# Altium schematic symbol library MICRO2440_LIB.SchLib: 5 symbols
Pins are listed as number, name and electrical type; pins without a type are passive.

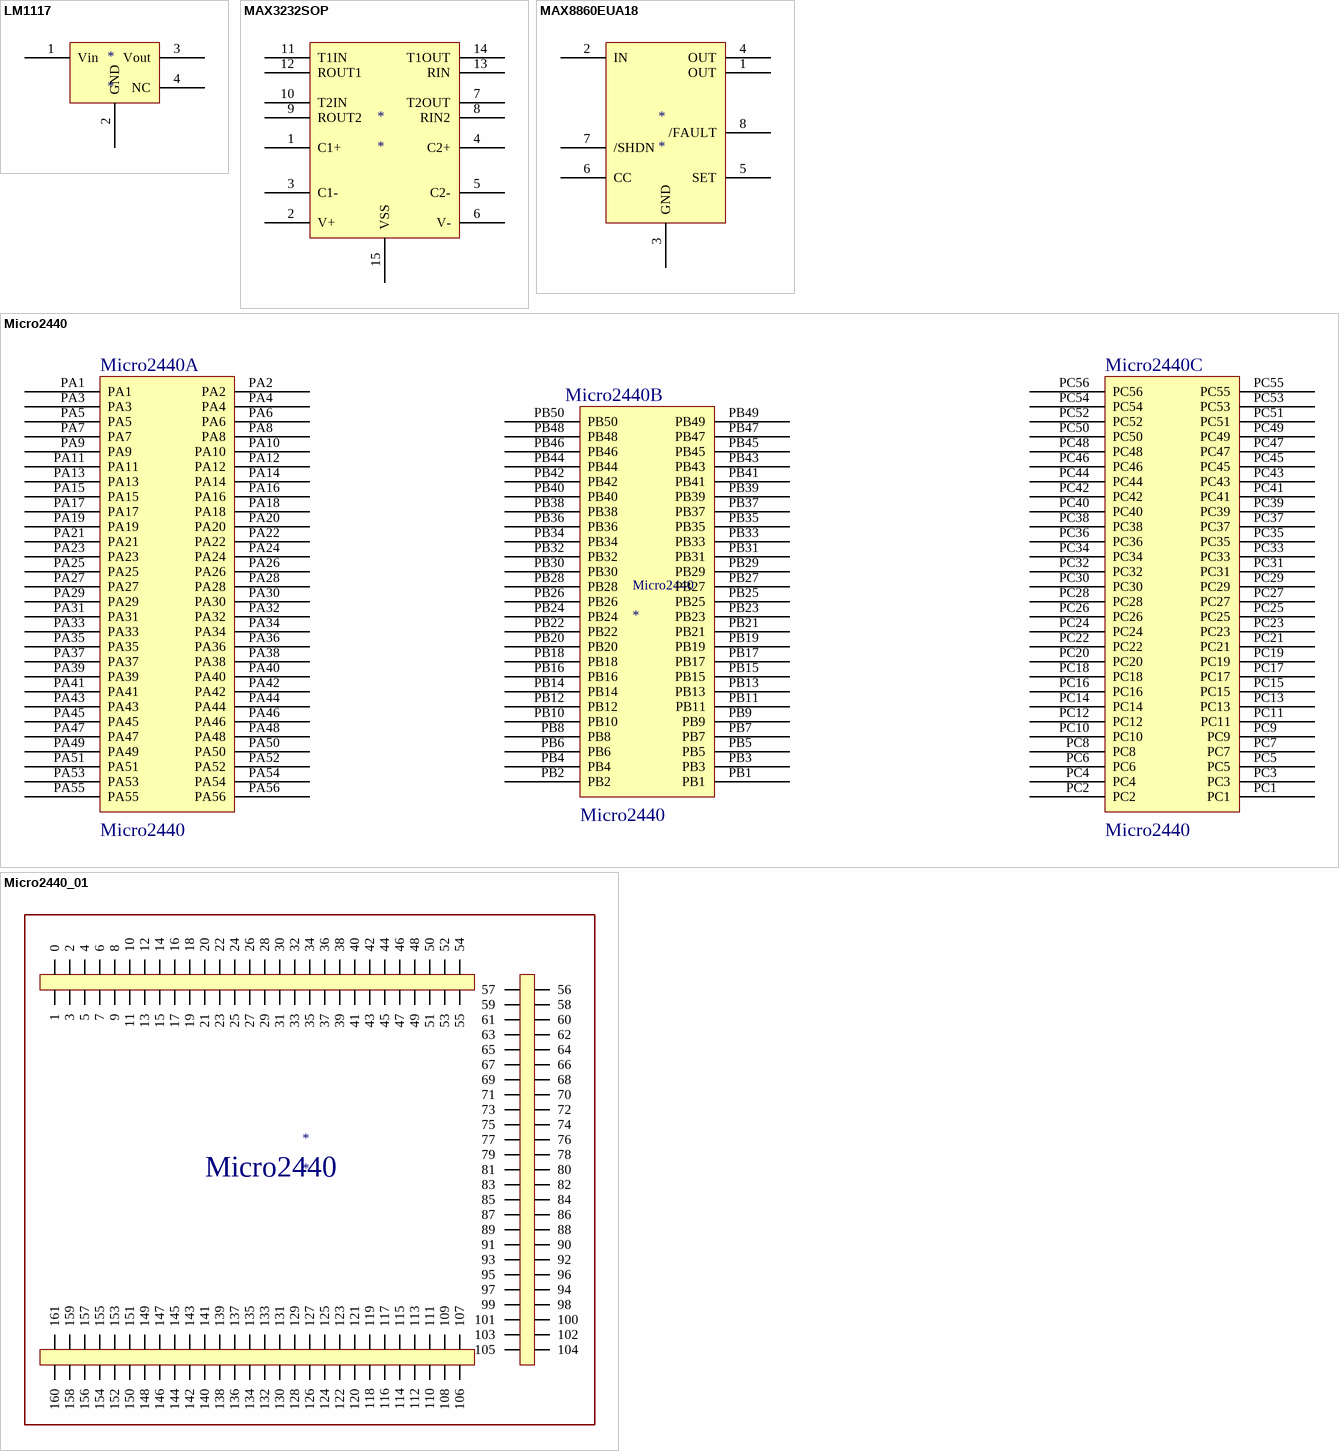
[diagram p0: symbols LM1117 to Micro2440_01]

## LM1117
designator *
pins: 1 Vin, 2 GND, 3 Vout, 4 NC

## MAX3232SOP
designator *
pins: 1 C1+, 2 V+, 3 C1-, 4 C2+, 5 C2-, 6 V-, 7 T2OUT, 8 RIN2, 9 ROUT2, 10 T2IN, 11 T1IN, 12 ROUT1, 13 RIN, 14 T1OUT, 15 VSS

## MAX8860EUA18
designator *
pins: 1 OUT, 2 IN, 3 GND, 4 OUT, 5 SET, 6 CC, 7 /SHDN, 8 /FAULT

## Micro2440
designator Micro2440
pins: PA1, PA2, PA3, PA4, PA5, PA6, PA7, PA8, PA9, PA10, PA11, PA12, PA13, PA14, PA15, PA16, PA17, PA18, PA19, PA20, PA21, PA22, PA23, PA24, PA25, PA26, PA27, PA28, PA29, PA30, PA31, PA32, PA33, PA34, PA35, PA36, PA37, PA38, PA39, PA40, PA41, PA42, PA43, PA44, PA45, PA46, PA47, PA48, PA49, PA50, PA51, PA52, PA53, PA54, PA55, PA56, PB1, PB2, PB3, PB4, PB5, PB6, PB7, PB8, PB9, PB10, PB11, PB12, PB13, PB14, PB15, PB16, PB17, PB18, PB19, PB20, PB21, PB22, PB23, PB24, PB25, PB26, PB27, PB28, PB29, PB30, PB31, PB32, PB33, PB34, PB35, PB36, PB37, PB38, PB39, PB40, PB41, PB42, PB43, PB44, PB45, PB46, PB47, PB48, PB49, PB50, PC1, PC2, PC3, PC4, PC5, PC6, PC7, PC8, PC9, PC10, PC11, PC12, PC13, PC14, PC15, PC16, PC17, PC18, PC19, PC20, PC21, PC22, PC23, PC24, PC25, PC26, PC27, PC28, PC29, PC30, PC31, PC32, PC33, PC34, PC35, PC36, PC37, PC38, PC39, PC40, PC41, PC42, PC43, PC44, PC45, PC46, PC47, PC48, PC49, PC50, PC51, PC52, PC53, PC54, PC55, PC56
text: Micro2440A; Micro2440C; Micro2440B

## Micro2440_01
designator *
pins: 0, 1, 2, 3, 4, 5, 6, 7, 8, 9, 10, 11, 12, 13, 14, 15, 16, 17, 18, 19, 20, 21, 22, 23, 24, 25, 26, 27, 28, 29, 30, 31, 32, 33, 34, 35, 36, 37, 38, 39, 40, 41, 42, 43, 44, 45, 46, 47, 48, 49, 50, 51, 52, 53, 54, 55, 56, 57, 58, 59, 60, 61, 62, 63, 64, 65, 66, 67, 68, 69, 70, 71, 72, 73, 74, 75, 76, 77, 78, 79, 80, 81, 82, 83, 84, 85, 86, 87, 88, 89, 90, 91, 92, 93, 94, 95, 96, 97, 98, 99, 100, 101, 102, 103, 104, 105, 106, 107, 108, 109, 110, 111, 112, 113, 114, 115, 116, 117, 118, 119, 120, 121, 122, 123, 124, 125, 126, 127, 128, 129, 130, 131, 132, 133, 134, 135, 136, 137, 138, 139, 140, 141, 142, 143, 144, 145, 146, 147, 148, 149, 150, 151, 152, 153, 154, 155, 156, 157, 158, 159, 160, 161
text: Micro2440